# Altium integrated library trafo-bei.IntLib: 1 symbol
Pins are listed as number, name and electrical type; pins without a type are passive.

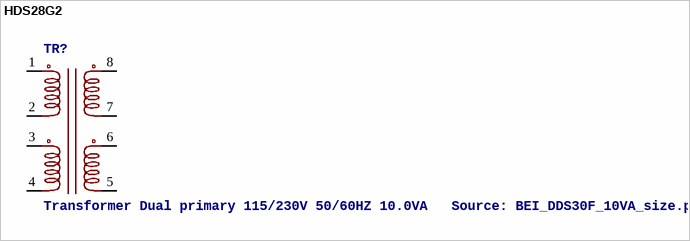
[diagram p0: symbol HDS28G2]

## HDS28G2
designator TR?, comment Transformer Dual primary 115/230V 50/60HZ 10.0VA   Source: BEI_DDS30F_10VA_size.pdf
OC_FARNELL: unknown; OC_NEWARK: unknown
footprint HDS28G2
pins: 1 P1.1, 2 P1.2, 3 P2.1, 4 P2.2, 5 S2.2, 6 S2.1, 7 S1.2, 8 S1.1